# Altium schematic symbol library 1-776279-2.SchLib: 1 symbol
Pins are listed as number, name and electrical type; pins without a type are passive.

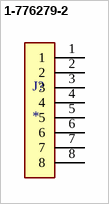
[diagram p0: symbol 1-776279-2]

## 1-776279-2
designator J?
8 Pos Right Angle Hdr Assy,; MP: 1-776279-2; Package: None; Price: None; Value: *; Availability: Unavailable
footprint TE_1-776279-2
pins: 1, 2, 3, 4, 5, 6, 7, 8